# EAGLE library part MAXIM-MAX30100 (library controller_board)
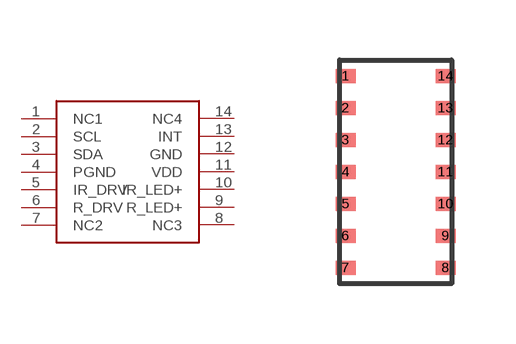
[diagram p0: symbol with the pads of MAXIM-MAX30100; footprint MAXIM-MAX30100]

Designator prefix -

## MAXIM-MAX30100  [MAXIM-MAX30100]
1  NC1
2  SCL
3  SDA
4  PGND
5  IR_DRV
6  R_DRV
7  NC2
8  NC3
9  R_LED+
10  IR_LED+
11  VDD
12  GND
13  INT
14  NC4

## Footprint MAXIM-MAX30100 (pad centres in mm)
smd 0.5 x 0.35: 1 -1.25,2.4; 2 -1.25,1.6; 3 -1.25,0.8; 4 -1.25,0; 5 -1.25,-0.8; 6 -1.25,-1.6; 7 -1.25,-2.4; 8 1.25,-2.4; 9 1.25,-1.6; 10 1.25,-0.8; 11 1.25,0; 12 1.25,0.8; 13 1.25,1.6; 14 1.25,2.4